# Altium footprint library TPL503115-S5TR.PcbLib: 3 footprints
Each footprint in its own frame and in the unit in brackets; x right, y up, seen from the top. Pads: shape width x height; smd on the part's side, far side on the other; paste and mask are expansions set on the pad; w line width, h text height; cw(c..) or ccw(c..) is an arc to the next point about the centre after c.
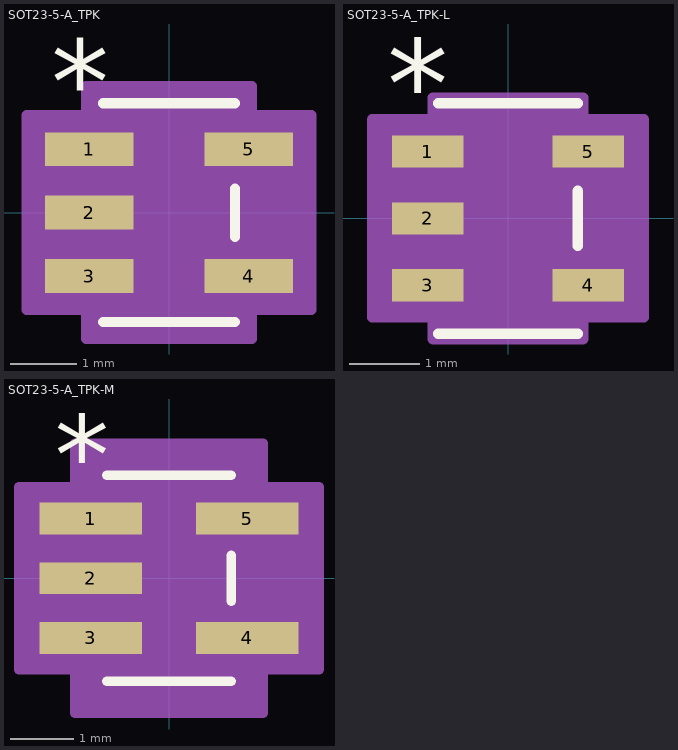
[diagram p0: the footprints below, top view; thin cyan lines are the x and y axes]

## SOT23-5-A_TPK [mil]
pads (5):
  rect 52x20 smd paste+0 mask+0: 1(-47,37.4) 2(-47,0) 3(-47,-37.4) 4(47,-37.4) 5(47,37.4)
Top Overlay:
  lines w6: -39,-64.5 39,-64.5 ; -39,64.5 39,64.5 ; 39,-14.3 39,14.3
  text "*" at -69.5,52.4 h50
Mechanical 13:
  lines w0: -12,59.5 ccw(c0,59.5) 12,59.5
  lines w1: -59,-47.4 -59,-27.4 -34,-27.4 -34,-47.4 -59,-47.4 ; -59,-10 -59,10 -34,10 -34,-10 -59,-10 ; -59,27.4 -59,47.4 -34,47.4 -34,27.4 -59,27.4 ; -34,-59.5 34,-59.5 34,59.5 -34,59.5 -34,-59.5 ; 34,-47.4 34,-27.4 59,-27.4 59,-47.4 34,-47.4 ; 34,27.4 34,47.4 59,47.4 59,27.4 34,27.4
  text "*" at -36.5,9.4 h50
Mechanical 15:
  region: 49,-74.5 -49,-74.5 -49,-57.4 -84,-57.4 -84,57.4 -49,57.4 -49,74.5 49,74.5 49,57.4 84,57.4 84,-57.4 49,-57.4
  lines w6: -84,-57.4 -49,-57.4 -49,-74.5 49,-74.5 49,-57.4 84,-57.4 84,57.4 49,57.4 49,74.5 -49,74.5 -49,57.4 -84,57.4 -84,-57.4
3D body "SOT23-5-A_TPK.step": height 49.09, standoff 0, extent -59.02,-59.49 59.02,59.49

## SOT23-5-A_TPK-L [mil]
pads (5):
  rect 40x18 smd paste+0 mask+0: 1(-45,37.4) 2(-45,0) 3(-45,-37.4) 4(45,-37.4) 5(45,37.4)
Top Overlay:
  lines w6: -39,-64.5 39,-64.5 ; -39,64.5 39,64.5 ; 39,-15.3 39,15.3
  text "*" at -67.5,50.4 h50
Mechanical 13:
  lines w0: -12,59.5 ccw(c0,59.5) 12,59.5
  lines w1: -59,-47.4 -59,-27.4 -34,-27.4 -34,-47.4 -59,-47.4 ; -59,-10 -59,10 -34,10 -34,-10 -59,-10 ; -59,27.4 -59,47.4 -34,47.4 -34,27.4 -59,27.4 ; -34,-59.5 34,-59.5 34,59.5 -34,59.5 -34,-59.5 ; 34,-47.4 34,-27.4 59,-27.4 59,-47.4 34,-47.4 ; 34,27.4 34,47.4 59,47.4 59,27.4 34,27.4
  text "*" at -36.5,7.4 h50
Mechanical 15:
  region: 42,-67.5 -42,-67.5 -42,-55.4 -76,-55.4 -76,55.4 -42,55.4 -42,67.5 42,67.5 42,55.4 76,55.4 76,-55.4 42,-55.4
  lines w6: -76,-55.4 -42,-55.4 -42,-67.5 42,-67.5 42,-55.4 76,-55.4 76,55.4 42,55.4 42,67.5 -42,67.5 -42,55.4 -76,55.4 -76,-55.4
3D body "SOT23-5-A_TPK.step": height 49.09, standoff 0, extent -59.02,-59.49 59.02,59.49

## SOT23-5-A_TPK-M [mil]
pads (5):
  rect 64x20 smd paste+0 mask+0: 1(-49,37.4) 2(-49,0) 3(-49,-37.4) 4(49,-37.4) 5(49,37.4)
Top Overlay:
  lines w6: -39,-64.5 39,-64.5 ; -39,64.5 39,64.5 ; 39,-14.3 39,14.3
  text "*" at -71.5,52.4 h50
Mechanical 13:
  lines w0: -12,59.5 ccw(c0,59.5) 12,59.5
  lines w1: -59,-47.4 -59,-27.4 -34,-27.4 -34,-47.4 -59,-47.4 ; -59,-10 -59,10 -34,10 -34,-10 -59,-10 ; -59,27.4 -59,47.4 -34,47.4 -34,27.4 -59,27.4 ; -34,-59.5 34,-59.5 34,59.5 -34,59.5 -34,-59.5 ; 34,-47.4 34,-27.4 59,-27.4 59,-47.4 34,-47.4 ; 34,27.4 34,47.4 59,47.4 59,27.4 34,27.4
  text "*" at -36.5,9.4 h50
Mechanical 15:
  region: 59,-84.5 -59,-84.5 -59,-57.4 -94,-57.4 -94,57.4 -59,57.4 -59,84.5 59,84.5 59,57.4 94,57.4 94,-57.4 59,-57.4
  lines w6: -94,-57.4 -59,-57.4 -59,-84.5 59,-84.5 59,-57.4 94,-57.4 94,57.4 59,57.4 59,84.5 -59,84.5 -59,57.4 -94,57.4 -94,-57.4
3D body "SOT23-5-A_TPK.step": height 49.09, standoff 0, extent -59.02,-59.49 59.02,59.49